# Altium footprint library MOS管.PcbLib: 6 footprints
Each footprint in its own frame and in the unit in brackets; x right, y up, seen from the top. Pads: shape width x height; smd on the part's side, far side on the other; paste and mask are expansions set on the pad; w line width, h text height; cw(c..) or ccw(c..) is an arc to the next point about the centre after c.
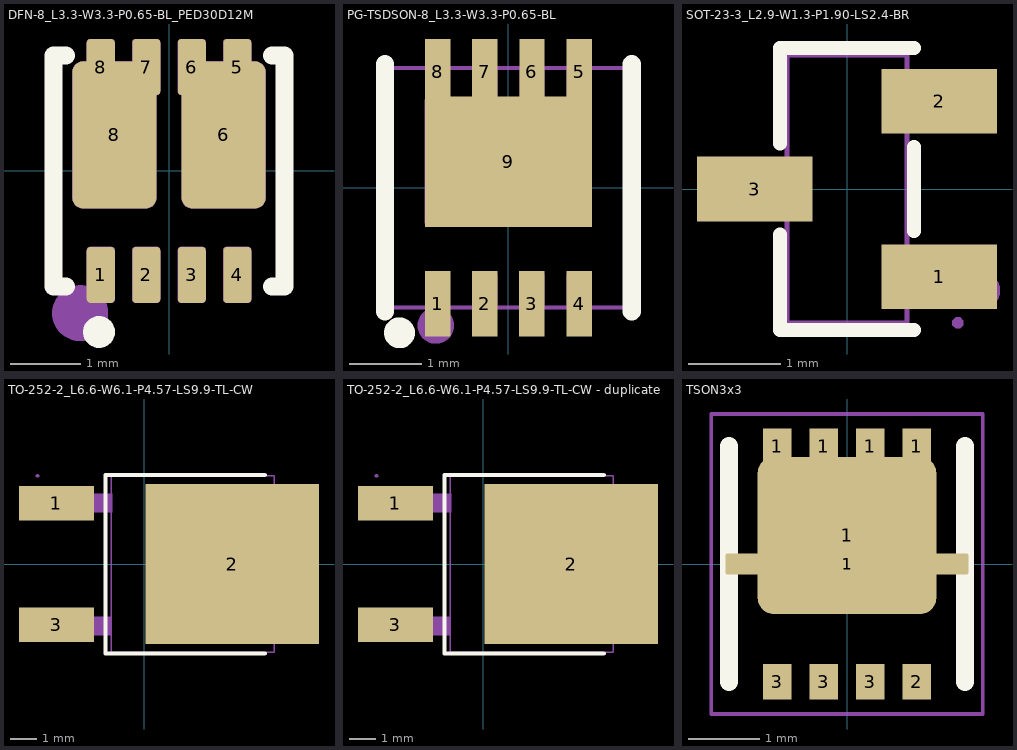
[diagram p0: the footprints below, top view; thin cyan lines are the x and y axes]

## DFN-8_L3.3-W3.3-P0.65-BL_PED30D12M [mm] "DFN(3.3x3.3); WSON-8(3.3x3.3); PDFN3.3x3.3-8L; DFN-8-3X3; DFN-8(3.3x3.3); PowerPAK1212-8; PowerDI3333-8; DFN-8; PDFN3.3X3.3; PDFN3333; DFN-8-EP(3.2x3.1); DFN3.3x3.3-8L"
height -909.212
pads (10):
  rrect25% 0.4x0.8 smd mask+0.05: 1(-0.975,-1.485) 2(-0.325,-1.485) 3(0.325,-1.485) 4(0.975,-1.485) 5(0.975,1.485) 6(0.325,1.485) 7(-0.325,1.485) 8(-0.975,1.485)
  rrect25% 1.2x2.1 smd mask+0.05: 6(0.78,0.515) 8(-0.78,0.515)
Top Overlay:
  circle w0.254: c-1,-2.3 r0.1
  region: -1.59,-1.675 -1.591,-1.663 -1.595,-1.652 -1.6,-1.641 -1.608,-1.632 -1.617,-1.625 -1.627,-1.619 -1.638,-1.616 -1.65,-1.615 -1.662,-1.616 -1.673,-1.619 -1.683,-1.625 -1.693,-1.632 -1.7,-1.641 -1.706,-1.652 -1.709,-1.663 -1.71,-1.675 -1.709,-1.686 -1.706,-1.698 -1.7,-1.708 -1.693,-1.717 -1.683,-1.725 -1.673,-1.73 -1.662,-1.734 -1.65,-1.735 -1.638,-1.734 -1.627,-1.73 -1.617,-1.725 -1.608,-1.717 -1.6,-1.708 -1.595,-1.698 -1.591,-1.686
  lines w0.254: -1.471,1.65 -1.65,1.65 -1.65,-1.65 -1.471,-1.65 ; 1.471,-1.65 1.65,-1.65 1.65,1.65 1.471,1.65
Mechanical 2:
  circle w0.4: c-1.27,-2.032 r0.2
Mechanical 9:
  drawing of 10 lines, arcs and shapes, not listed
3D body "DFN-8_L3.3-W3.3-P0.65-BL_PED30D12M.step": height 1, standoff 0, extent -1.65,-1.65 1.65,1.65

## PG-TSDSON-8_L3.3-W3.3-P0.65-BL [mm]
pads (9):
  rect 0.35x0.9 smd paste-100 mask+0.051: 1(-0.975,-1.6) 2(-0.325,-1.6) 3(0.325,-1.6) 4(0.975,-1.6) 5(0.975,1.6) 6(0.325,1.6) 7(-0.325,1.6) 8(-0.975,1.6)
  rect 2.3x1.8 smd paste-100 mask+0.051: 9(0,0.36)
Top Overlay:
  circle w0.254: c-1.5,-2 r0.085
  lines w0.254: -1.7,-1.7 -1.7,1.7 ; 1.7,-1.7 1.7,1.7
Top Paste:
  region: -0.8,1.265 -0.5,1.265 -0.5,2.05 -0.15,2.05 -0.15,1.26 0.15,1.26 0.15,2.05 0.5,2.05 0.5,1.26 0.8,1.26 0.8,2.05 1.15,2.05 1.15,-0.54 -1.15,-0.54 -1.15,2.05 -0.8,2.05
  region: -1.15,-2.05 -0.8,-2.05 -0.8,-1.15 -1.15,-1.15
  region: -0.5,-2.05 -0.15,-2.05 -0.15,-1.15 -0.5,-1.15
  region: 0.15,-2.05 0.5,-2.05 0.5,-1.15 0.15,-1.15
  region: 0.8,-2.05 1.15,-2.05 1.15,-1.15 0.8,-1.15
Mechanical 6:
  circle w0.25: c-1,-1.9 r0.125
Bottom Component Outline:
  region: -1.145,1.65 -0.805,1.65 -0.805,1.2 -1.145,1.2
  region: -0.495,1.65 -0.155,1.65 -0.155,1.2 -0.495,1.2
  region: 0.155,1.65 0.495,1.65 0.495,1.2 0.155,1.2
  region: 0.805,1.65 1.145,1.65 1.145,1.2 0.805,1.2
  region: -1.15,-0.49 -1.15,1.21 1.15,1.21 1.15,-0.49
  region: -0.805,-1.65 -1.145,-1.65 -1.145,-1.2 -0.805,-1.2
  region: -0.155,-1.65 -0.495,-1.65 -0.495,-1.2 -0.155,-1.2
  region: 0.495,-1.65 0.155,-1.65 0.155,-1.2 0.495,-1.2
  region: 1.145,-1.65 0.805,-1.65 0.805,-1.2 1.145,-1.2
  region: -1.59,-1.65 -1.59,-1.625 -1.625,-1.59 -1.675,-1.59 -1.71,-1.625 -1.71,-1.65 -1.71,-1.675 -1.675,-1.71 -1.625,-1.71 -1.59,-1.675 -1.59,-1.65
  lines w0.051: -1.65,-1.65 -1.65,1.65 1.65,1.65 1.65,-1.65 -1.65,-1.65

## SOT-23-3_L2.9-W1.3-P1.90-LS2.4-BR [mm]
pads (3):
  rect 1.25x0.7 smd: 1(1,-0.95) 2(1,0.95) 3(-1,0)
Top Overlay:
  lines w0.152: -0.726,-0.495 -0.726,-1.526 0.726,-1.526 ; -0.726,0.495 -0.726,1.526 0.726,1.526 ; 0.726,-0.455 0.726,0.455
Mechanical 6:
  circle w0.2: c1.46,-1.1 r0.1
Bottom Component Outline:
  region: 1.26,-1.45 1.259,-1.426 1.224,-1.392 1.176,-1.392 1.141,-1.426 1.14,-1.45 1.141,-1.474 1.176,-1.508 1.224,-1.508 1.259,-1.474 1.26,-1.45
  region: 0.64,0.735 0.64,1.165 0.91,1.165 0.91,0.735
  region: 0.9,0.735 0.9,1.165 1.2,1.165 1.2,0.735
  region: 0.64,-1.165 0.64,-0.735 0.91,-0.735 0.91,-1.165
  region: 0.9,-1.165 0.9,-0.735 1.2,-0.735 1.2,-1.165
  region: -0.91,-0.215 -0.91,0.215 -0.64,0.215 -0.64,-0.215
  region: -1.2,-0.215 -1.2,0.215 -0.9,0.215 -0.9,-0.215
  lines w0.051: -0.65,-1.45 -0.65,1.45 0.65,1.45 0.65,-1.45 -0.65,-1.45

## TO-252-2_L6.6-W6.1-P4.57-LS9.9-TL-CW [mm]
pads (3):
  rect 2.8x1.3 smd: 1(-3.292,2.273) 3(-3.292,-2.273)
  rect 6.5x6 smd: 2(3.292,0)
Top Overlay:
  lines w0.152: 4.511,-3.353 -1.456,-3.353 -1.456,3.34 4.511,3.34
Mechanical 6:
  circle w0.6: c-3.962,2.286 r0.3
Bottom Component Outline:
  region: -3.938,3.3 -3.939,3.324 -3.974,3.358 -4.022,3.357 -4.057,3.324 -4.058,3.3 -4.057,3.276 -4.022,3.242 -3.974,3.242 -3.939,3.276 -3.938,3.3
  region: 0.727,-2.667 0.727,2.668 5.403,2.668 5.937,2.135 5.937,-2.133 5.403,-2.667
  region: -3.998,-2.667 -3.998,-1.968 -2.408,-1.968 -2.408,-2.667
  region: -3.998,1.93 -3.998,2.629 -2.408,2.629 -2.408,1.93
  region: -2.474,-2.667 -2.474,-1.968 -1.224,-1.968 -1.224,-2.667
  region: -2.448,1.93 -2.448,2.629 -1.198,2.629 -1.198,1.93
  lines w0.051: -1.231,-3.3 -1.231,3.3 4.869,3.3 4.869,-3.3 -1.231,-3.3

## TO-252-2_L6.6-W6.1-P4.57-LS9.9-TL-CW - duplicate [mm]
pads (3):
  rect 2.8x1.3 smd: 1(-3.292,2.273) 3(-3.292,-2.273)
  rect 6.5x6 smd: 2(3.292,0)
Top Overlay:
  lines w0.152: 4.511,-3.353 -1.456,-3.353 -1.456,3.34 4.511,3.34
Mechanical 6:
  circle w0.6: c-3.962,2.286 r0.3
Bottom Component Outline:
  region: -3.938,3.3 -3.939,3.324 -3.974,3.358 -4.022,3.357 -4.057,3.324 -4.058,3.3 -4.057,3.276 -4.022,3.242 -3.974,3.242 -3.939,3.276 -3.938,3.3
  region: 0.727,-2.667 0.727,2.668 5.403,2.668 5.937,2.135 5.937,-2.133 5.403,-2.667
  region: -3.998,-2.667 -3.998,-1.968 -2.408,-1.968 -2.408,-2.667
  region: -3.998,1.93 -3.998,2.629 -2.408,2.629 -2.408,1.93
  region: -2.474,-2.667 -2.474,-1.968 -1.224,-1.968 -1.224,-2.667
  region: -2.448,1.93 -2.448,2.629 -1.198,2.629 -1.198,1.93
  lines w0.051: -1.231,-3.3 -1.231,3.3 4.869,3.3 4.869,-3.3 -1.231,-3.3

## TSON3x3 [mm]
pads (10):
  rect 0.4x0.5 smd: 1(-0.975,1.65) 1(-0.325,1.65) 1(0.325,1.65) 1(0.975,1.65) 2(0.975,-1.65) 3(-0.975,-1.65) 3(-0.325,-1.65) 3(0.325,-1.65)
  rrect20% 3.4x0.3 smd: 1(0,0)
  rrect20% 2.5x2.2 smd: 1(0,0.4)
Top Overlay:
  lines w0.254: -1.65,-1.65 -1.65,1.65 ; 1.65,-1.65 1.65,1.65
Top Designator:
  text ".Designator" at -2.252,-0.226 h1
Top Component Outline:
  lines w0.05: -1.9,-2.1 -1.9,2.1 1.9,2.1 1.9,-2.1 -1.9,-2.1
Top Component Center:
  circle w0.025: c0,0 r0.225
  lines w0.025: -0.45,0 0.45,0 ; 0,-0.45 0,0.45
3D body: height 0.17, standoff 0, extent -1.125,-1.65 -0.825,-1.55
3D body: height 0.17, standoff 0, extent -0.475,-1.65 -0.175,-1.55
3D body: height 0.17, standoff 0, extent -1.125,1.55 -0.825,1.65
3D body: height 0.17, standoff 0, extent -0.475,1.55 -0.175,1.65
3D body: height 0.17, standoff 0, extent 0.175,-1.65 0.475,-1.55
3D body: height 0.17, standoff 0, extent 0.825,-1.65 1.125,-1.55
3D body: height 0.17, standoff 0, extent 0.175,1.55 0.475,1.65
3D body: height 0.17, standoff 0, extent 0.825,1.55 1.125,1.65
3D body: height 0.17, standoff 0, extent -1.25,-0.7 1.25,1.55
3D body: height 0.17, standoff 0, extent -1.662,-0.125 1.663,0.125
3D body: height 0.85, standoff 0, extent -1.55,-1.55 1.55,1.55